# Altium integrated library ABS07-120-32.768KHZ-T.IntLib: 1 symbol
Pins are listed as number, name and electrical type; pins without a type are passive.

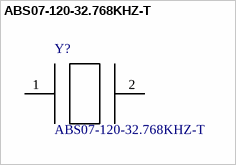
[diagram p0: symbol ABS07-120-32.768KHZ-T]

## ABS07-120-32.768KHZ-T
designator Y?
/ 3.2 x 1.5mm, 32.768KHZ Xtal 6pf, 20ppm, -40+85C, ESR 60kOhm, ST Micro Ref Design Crystal for STM32L /; MF: Abracon; SnapEDA_Link: https://www.snapeda.com/parts/ABS07-120-32.768KHZ-T/Abracon%20LLC/view-part/?ref=snap; Digi-Key_Purchase_URL: https://www.digikey.com/product-detail/en/abracon-llc/ABS07-120-32.768KHZ-T/535-11937-1-ND/3724046?utm_source=snapeda&utm_medium=aggregator&utm_campaign=symbol; MP: ABS07-120-32.768KHZ-T; Package: SMD-2 Abracon LLC; Digi-Key_Part_Number: 535-11937-1-ND; Value: *
footprint *XTAL_ABS07-120-32.768KHZ-T
pins: 1, 2